# EAGLE library part MCP6024 (library microchip_local)
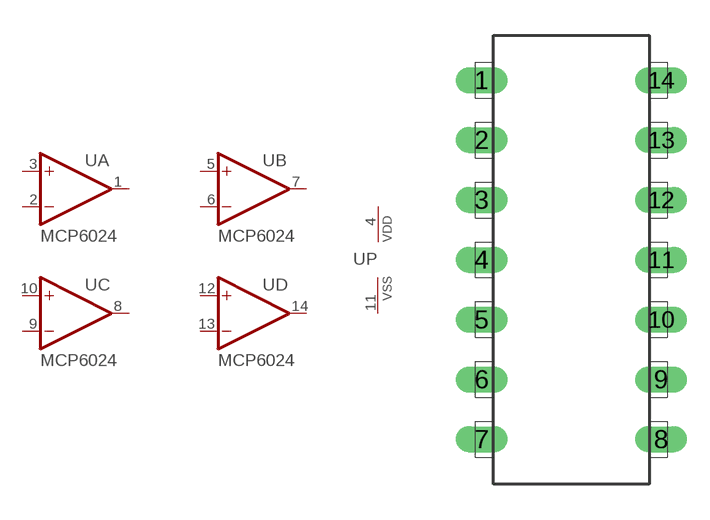
[diagram p1: symbol with the pads of DIP-14; footprint DIP-14]

Designator prefix U; gates A=OPAMP B=OPAMP C=OPAMP D=OPAMP P=PWRN

## MCP6024-I/P  [DIP-14]
1  A:OUT  out
2  A:-IN  in
3  A:+IN  in
4  P:VDD  pas
5  B:+IN  in
6  B:-IN  in
7  B:OUT  out
8  C:OUT  out
9  C:-IN  in
10  C:+IN  in
11  P:VSS  pas
12  D:+IN  in
13  D:-IN  in
14  D:OUT  out

## Footprint DIP-14 (pad centres in mm)
drill 0.6 pad 1.016 long: 1 -3.81,7.62; 2 -3.81,5.08; 3 -3.81,2.54; 4 -3.81,0; 5 -3.81,-2.54; 6 -3.81,-5.08; 7 -3.81,-7.62; 8 3.81,-7.62; 9 3.81,-5.08; 10 3.81,-2.54; 11 3.81,0; 12 3.81,2.54; 13 3.81,5.08; 14 3.81,7.62